# Altium schematic symbol library NPN_S8050.SchLib: 1 symbol
Pins are listed as number, name and electrical type; pins without a type are passive.

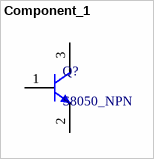
[diagram p0: symbol Component_1]

## Component_1
designator Q?, comment S8050_NPN
footprint PCBComponent_1
pins: 1 B, 2 E, 3 C